# Altium schematic symbol library 32k_Osc.SchLib: 1 symbol
Pins are listed as number, name and electrical type; pins without a type are passive.

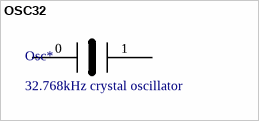
[diagram p0: symbol OSC32]

## OSC32
designator Osc*, comment 32.768kHz crystal oscillator
footprint 32kHz_osc (oscillator)
pins: 0, 1